# Altium schematic symbol library LM393ADGKR.Schlib: 1 symbol
Pins are listed as number, name and electrical type; pins without a type are passive.

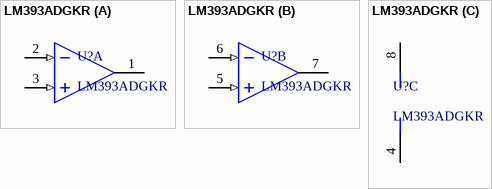
[diagram p0: symbol LM393ADGKR]

## LM393ADGKR
designator U?
Comparator Differential CMOS, MOS, Open-Drain, TTL 8-VSSOP
part A pins: 1 OUT1 (oc), 2 IN1- (in), 3 IN1+ (in)
part B pins: 5 IN2+ (in), 6 IN2- (in), 7 OUT2 (oc)
part C pins: 4 V- (power), 8 V+ (power)